# Altium integrated library Competion.IntLib: 35 symbols
Pins are listed as number, name and electrical type; pins without a type are passive.

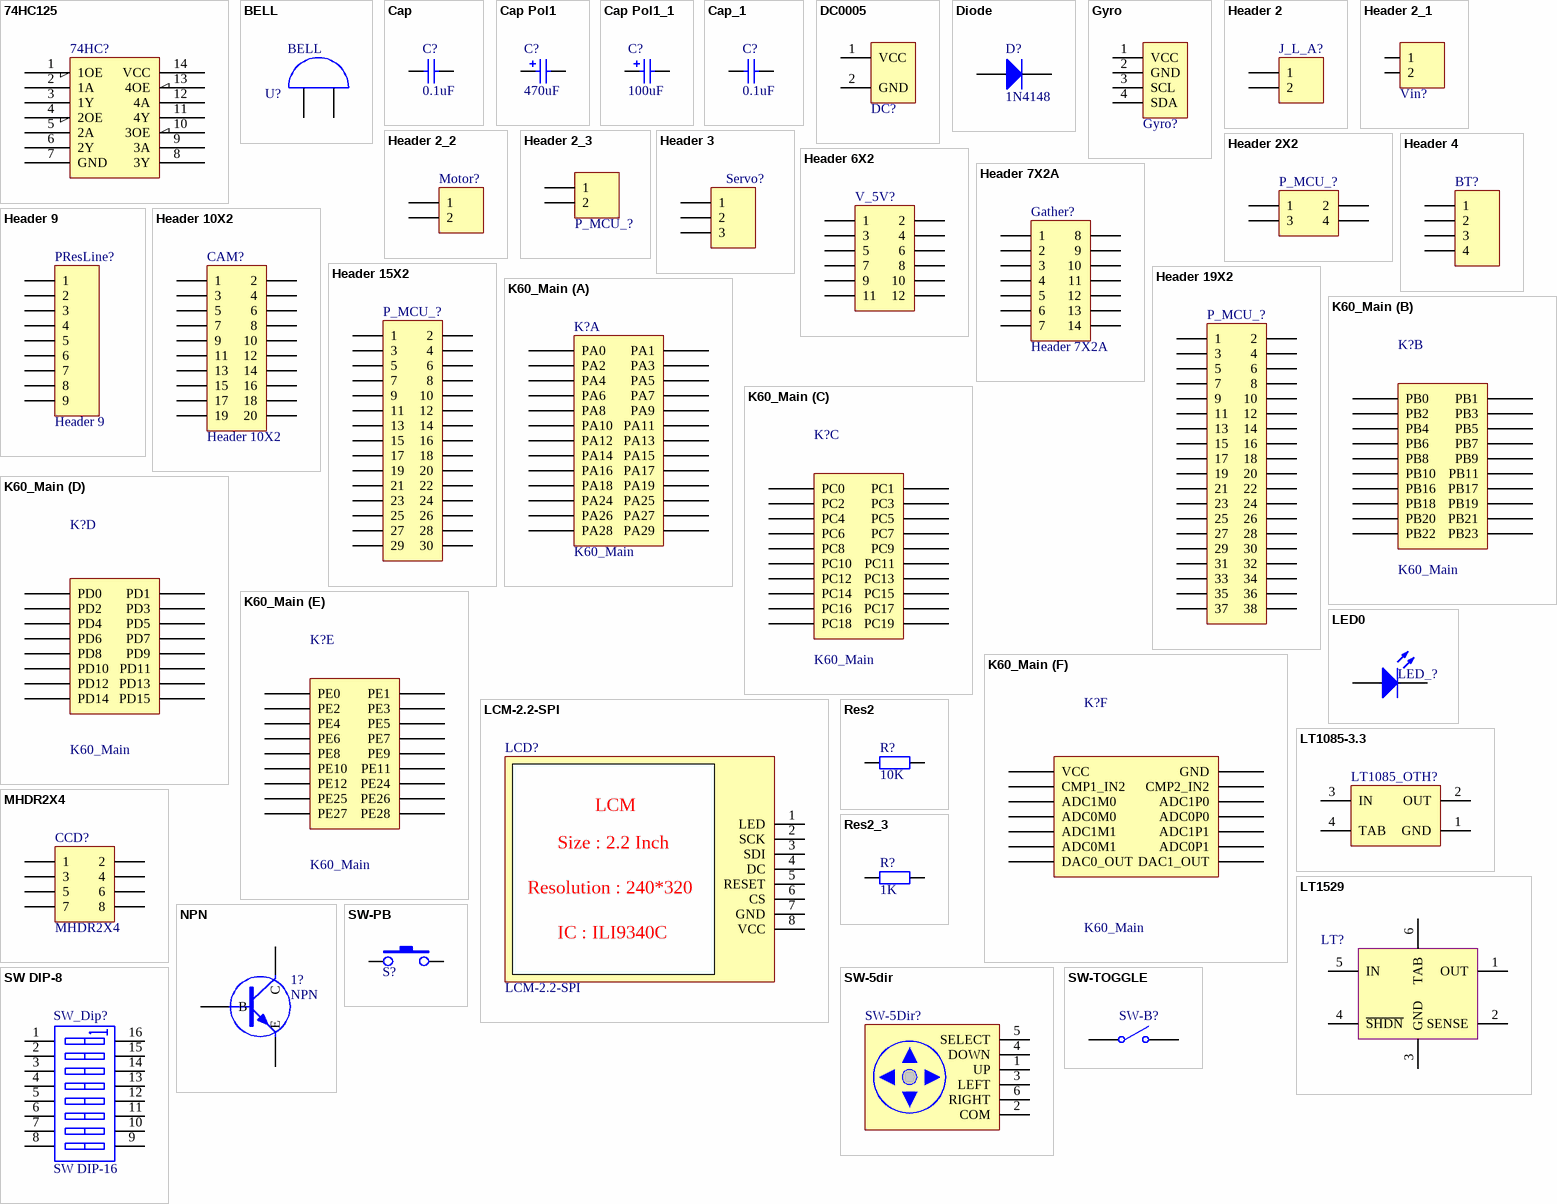
[diagram p0: symbols 74HC125 to SW-TOGGLE]

## 74HC125
designator 74HC?  (value not drawn)
footprint 751A-02_N (SOIC, 14-Leads, Body 8.7x3.9mm, Pitch 1.27mm, IPC Medium Density)
pins: 1 1OE, 2 1A, 3 1Y, 4 2OE, 5 2A, 6 2Y, 7 GND, 8 3Y, 9 3A, 10 3OE, 11 4Y, 12 4A, 13 4OE, 14 VCC

## BELL
designator U?
footprint BUZZER
footprint BEEP
pins: 1 A, 2 B
2 alternate drawings of the same symbol

## Cap
designator C?, comment 0.1uf
Capacitor; Published: 8-Jun-2000; LatestRevisionDate: 17-Jul-2002; LatestRevisionNote: Re-released for DXP Platform.; PackageReference: RAD-0.3; Publisher: Altium Limited; PackageDescription: Radial Cap, Thru-Hole; 2 Leads; 0.3 in Pin Spacing; Value: 0.1uF
simulation model CAP (Capacitor)
signal-integrity model Cap
footprint 0805-S
pins: 1, 2

## Cap Pol1
designator C?, comment 470uf
Polarized Capacitor (Radial); Published: 8-Jun-2000; LatestRevisionDate: 17-Jul-2002; LatestRevisionNote: Re-released for DXP Platform.; PackageReference: RB7.6-15; Publisher: Altium Limited; PackageDescription: Polarized Capacitor (Radial); 2 Leads; Value: 470uF
footprint 220UF-25V
pins: 1, 2
1 alternate drawing of the same symbol

## Cap Pol1_1
designator C?, comment 100uf
Polarized Capacitor (Radial); Published: 8-Jun-2000; LatestRevisionDate: 17-Jul-2002; LatestRevisionNote: Re-released for DXP Platform.; PackageReference: RB7.6-15; Publisher: Altium Limited; PackageDescription: Polarized Capacitor (Radial); 2 Leads; Value: 100uF
footprint 100uf-25V
pins: 1, 2
1 alternate drawing of the same symbol

## Cap_1
designator C?, comment 0.1uF
Capacitor; Published: 8-Jun-2000; LatestRevisionDate: 17-Jul-2002; LatestRevisionNote: Re-released for DXP Platform.; PackageReference: RAD-0.3; Publisher: Altium Limited; Value: 0.1uF
simulation model CAP (Capacitor)
signal-integrity model Cap
3D model User_Library-cap0805 (PCB3D Model)
footprint 0805-S
pins: 1, 2

## DC0005
designator DC?  (value not drawn)
footprint DC (DC Power Jack, 2.5mm, KLD Series, PCB Mount)
pins: 1 VCC (oc), 2 GND (oc)

## Diode
designator D?, comment 1N4148
Published: 8-Jun-2000; LatestRevisionDate: 17-Jul-2002; LatestRevisionNote: Re-released for DXP Platform.; PackageDocument: Sep-1996; Publisher: Altium Limited; Code_JEDEC: DO-214-AB
footprint 1N4148
pins: 1 A, 2 K
2 alternate drawings of the same symbol

## Gyro
designator Gyro?  (value not drawn)
footprint GYRO
pins: 1 VCC, 2 GND, 3 SCL, 4 SDA

## Header 2
designator J_L_A?  (value not drawn)
Header, 2-Pin; LatestRevisionDate: 17-Jul-2002; LatestRevisionNote: Re-released for DXP Platform.; Publisher: Altium Limited
footprint HDR1X2 (Connector; Header; 2 Position)
signal-integrity model Connector
pins: 1, 2

## Header 2_1
designator Vin?, comment Header 2  (value not drawn)
Header, 2-Pin; LatestRevisionDate: 17-Jul-2002; LatestRevisionNote: Re-released for DXP Platform.; Publisher: Altium Limited
footprint Head2_small (Head)
pins: 1, 2

## Header 2_2
designator Motor?, comment Header 2  (value not drawn)
Header, 2-Pin; LatestRevisionDate: 17-Jul-2002; LatestRevisionNote: Re-released for DXP Platform.; Publisher: Altium Limited
footprint Head2_small
signal-integrity model Connector
pins: 1, 2

## Header 2_3
designator P_MCU_?, comment Header 2  (value not drawn)
Header, 2-Pin; LatestRevisionDate: 17-Jul-2002; LatestRevisionNote: Re-released for DXP Platform.; Publisher: Altium Limited
footprint HDR1X2 (Connector; Header; 2 Position)
pins: 1, 2

## Header 2X2
designator P_MCU_?  (value not drawn)
Header, 2-Pin, Dual row; LatestRevisionDate: 17-Jul-2002; LatestRevisionNote: Re-released for DXP Platform.; Publisher: Altium Limited
footprint HDR2X2 (Connector; Header; 2x2 Position)
signal-integrity model Connector
pins: 1, 2, 3, 4

## Header 3
designator Servo?, comment Ser_head  (value not drawn)
Header, 3-Pin; LatestRevisionDate: 17-Jul-2002; LatestRevisionNote: Re-released for DXP Platform.; Publisher: Altium Limited
footprint HDR1X3 (Connector; Header; 3 Position)
signal-integrity model Connector
pins: 1, 2, 3

## Header 4
designator BT?  (value not drawn)
Header, 4-Pin; LatestRevisionDate: 17-Jul-2002; LatestRevisionNote: Re-released for DXP Platform.; Publisher: Altium Limited
footprint HDR1X4 (Connector; Header; 4 Position)
signal-integrity model Connector
pins: 1, 2, 3, 4

## Header 6X2
designator V_5V?  (value not drawn)
Header, 6-Pin, Dual row; LatestRevisionDate: 17-Jul-2002; LatestRevisionNote: Re-released for DXP Platform.; Publisher: Altium Limited
footprint HDR2X6 (Connector; Header; 6x2 Position)
signal-integrity model Connector
pins: 1, 2, 3, 4, 5, 6, 7, 8, 9, 10, 11, 12

## Header 7X2A
designator Gather?
Header, 7-Pin, Dual row; LatestRevisionDate: 17-Jul-2002; LatestRevisionNote: Re-released for DXP Platform.; Publisher: Altium Limited
footprint HDR2X7_CEN (Connector; Header; 7x2 Position)
signal-integrity model Connector
pins: 1, 2, 3, 4, 5, 6, 7, 8, 9, 10, 11, 12, 13, 14

## Header 9
designator PResLine?
Header, 9-Pin; LatestRevisionDate: 17-Jul-2002; LatestRevisionNote: Re-released for DXP Platform.; Publisher: Altium Limited
footprint HDR1X9 (Connector; Header; 9 Position)
signal-integrity model Connector
pins: 1, 2, 3, 4, 5, 6, 7, 8, 9

## Header 10X2
designator CAM?
Header, 10-Pin, Dual row; LatestRevisionDate: 17-Jul-2002; LatestRevisionNote: Re-released for DXP Platform.; Publisher: Altium Limited
signal-integrity model Connector
footprint Camer
pins: 1, 2, 3, 4, 5, 6, 7, 8, 9, 10, 11, 12, 13, 14, 15, 16, 17, 18, 19, 20

## Header 15X2
designator P_MCU_?  (value not drawn)
Header, 15-Pin, Dual row; LatestRevisionDate: 17-Jul-2002; LatestRevisionNote: Re-released for DXP Platform.; Publisher: Altium Limited
footprint HDR2X15 (Connector; Header; 15x2 Position)
signal-integrity model Connector
pins: 1, 2, 3, 4, 5, 6, 7, 8, 9, 10, 11, 12, 13, 14, 15, 16, 17, 18, 19, 20, 21, 22, 23, 24, 25, 26, 27, 28, 29, 30

## Header 19X2
designator P_MCU_?  (value not drawn)
Header, 19-Pin, Dual row; LatestRevisionDate: 17-Jul-2002; LatestRevisionNote: Re-released for DXP Platform.; Publisher: Altium Limited
footprint HDR2X19 (Connector; Header; 19x2 Position)
signal-integrity model Connector
pins: 1, 2, 3, 4, 5, 6, 7, 8, 9, 10, 11, 12, 13, 14, 15, 16, 17, 18, 19, 20, 21, 22, 23, 24, 25, 26, 27, 28, 29, 30, 31, 32, 33, 34, 35, 36, 37, 38

## K60_Main
designator K?
footprint K60_Main_Board
part A pins: 410 PA29, 411 PA28, 412 PA27, 413 PA26, 414 PA25, 415 PA24, 416 PA19, 417 PA18, 418 PA17, 419 PA16, 420 PA15, 421 PA14, 422 PA13, 423 PA12, 424 PA11, 425 PA10, 426 PA9, 427 PA8, 428 PA7, 429 PA6, 430 PA5, 431 PA4, 432 PA3, 433 PA2, 434 PA1, 435 PA0
part B pins: 41 PB8, 42 PB7, 43 PB6, 44 PB5, 45 PB4, 46 PB3, 47 PB2, 48 PB1, 49 PB0, 320 PB23, 321 PB22, 322 PB21, 323 PB20, 324 PB19, 325 PB18, 326 PB17, 327 PB16, 328 PB11, 329 PB10, 330 PB9
part C pins: 31 PC18, 32 PC17, 33 PC16, 34 PC15, 35 PC14, 36 PC13, 37 PC12, 38 PC11, 39 PC10, 238 PC19, 310 PC9, 311 PC8, 312 PC7, 313 PC6, 314 PC5, 315 PC4, 316 PC3, 317 PC2, 318 PC1, 319 PC0
part D pins: 222 PD15, 223 PD14, 224 PD13, 225 PD12, 226 PD11, 227 PD10, 228 PD9, 229 PD8, 230 PD7, 231 PD6, 232 PD5, 233 PD4, 234 PD3, 235 PD2, 236 PD1, 237 PD0
part E pins: 29 PE12, 51 PE25, 52 PE24, 210 PE11, 211 PE10, 212 PE9, 213 PE8, 214 PE7, 215 PE6, 216 PE5, 217 PE4, 218 PE3, 219 PE2, 220 PE1, 221 PE0, 436 PE28, 437 PE27, 438 PE26
part F pins: 11 VCC, 12 GND, 13 CMP1_IN2, 14 CMP2_IN2, 21 ADC1M0, 22 ADC1P0, 23 ADC0M0, 24 ADC0P0, 25 ADC1M1, 26 ADC1P1, 27 ADC0M1, 28 ADC0P1, 53 DAC1_OUT, 54 DAC0_OUT

## LCM-2.2-SPI
designator LCD?
LCM 2.2inch SPI; LatestRevisionDate: 17-Jul-2002; LatestRevisionNote: Re-released for DXP Platform.; Publisher: Altium Limited
footprint LCD
pins: 1 LED, 2 SCK, 3 SDI, 4 DC, 5 RESET, 6 CS, 7 GND, 8 VCC
text: LCM; Size : 2.2 Inch; Resolution : 240*320; IC : ILI9340C

## LED0
designator LED_?, comment LED  (value not drawn)
Typical INFRARED GaAs LED; Published: 8-Jun-2000; LatestRevisionDate: 08-Jul-2005; LatestRevisionNote: Mech Layer 1 removed.; PackageReference: LED-0; Publisher: Altium Limited
simulation model LED0 (Diode)
footprint 0805-S
pins: 1 A, 2 K

## LT1085-3.3
designator LT1085_OTH?  (value not drawn)
footprint TS3B_N (D2-PAK, 4-Leads, Body 8.6x10.2mm, Pitch 2.54mm, Lead Span 14.2mm, IPC Medium Density)
pins: 1 GND (power), 2 OUT (power), 3 IN (power), 4 TAB (power)

## LT1529
designator LT?  (value not drawn)
footprint TS5B
pins: 1 OUT, 2 SENSE, 3 GND, 4 ~{SHDN}, 5 IN, 6 TAB (oc)

## MHDR2X4
designator CCD?
Header, 4-Pin, Dual row; LatestRevisionDate: 17-Jul-2002; LatestRevisionNote: Re-released for DXP Platform.; Publisher: Altium Limited
footprint CCD
pins: 1, 2, 3, 4, 5, 6, 7, 8

## NPN
designator 1?
footprint BEC_123_S
pins: 1 B, 2 E, 3 C

## Res2
designator R?, comment 10K
Resistor; Value: 3.32K; Published: 8-Jun-2000; LatestRevisionDate: 17-Jul-2002; LatestRevisionNote: Re-released for DXP Platform.; PackageReference: AXIAL-0.4; Publisher: Altium Limited; PackageDescription: Axial Device, Thru-Hole; 2 Leads; 0.4 in Pin Spacing
simulation model RESISTOR (Resistor)
signal-integrity model Res
footprint 0805-S
pins: 1, 2

## Res2_3
designator R?, comment 1K
Resistor; Published: 8-Jun-2000; LatestRevisionDate: 17-Jul-2002; LatestRevisionNote: Re-released for DXP Platform.; PackageReference: AXIAL-0.4; Publisher: Altium Limited; Value: 1K
simulation model RESISTOR (Resistor)
signal-integrity model Res
footprint 0805-S
pins: 1, 2

## SW DIP-8
designator SW_Dip?, comment SW DIP-16
DIP Switch, 8 Position, SPST; Published: 24-Mar-1999; LatestRevisionDate: 17-Jul-2002; LatestRevisionNote: Re-released for DXP Platform.; PackageReference: DIP_SW_8WAY_SMD; Publisher: Altium Limited
footprint DIP16
pins: 1 A1, 2 A2, 3 A3, 4 A4, 5 A5, 6 A6, 7 A7, 8 A8, 9 B8, 10 B7, 11 B6, 12 B5, 13 B4, 14 B3, 15 B2, 16 B1

## SW-5dir
designator SW-5Dir?  (value not drawn)
2pin_GND; LatestRevisionDate: 17-Jul-2002; LatestRevisionNote: Re-released for DXP Platform.; Publisher: Altium Limited
footprint SW-5dir
pins: 1 UP, 2 COM, 3 LEFT, 4 DOWN, 5 SELECT, 6 RIGHT

## SW-PB
designator S?  (value not drawn)
footprint SW-PB
footprint key-press (KEY_DIP4)
footprint Key_Sop
pins: 1, 2
2 alternate drawings of the same symbol

## SW-TOGGLE
designator SW-B?  (value not drawn)
Single-Pole, Single-Throw Switch; Published: 24-Mar-1999; LatestRevisionDate: 17-Jul-2002; LatestRevisionNote: Re-released for DXP Platform.; PackageReference: SPST-2; Publisher: Altium Limited
footprint SW-TOGGLE
pins: 1 COMMON, 2 NO